# Altium integrated library Silicon Labs Clocks and Oscillators.IntLib: 678 symbols (part 11 of 45)
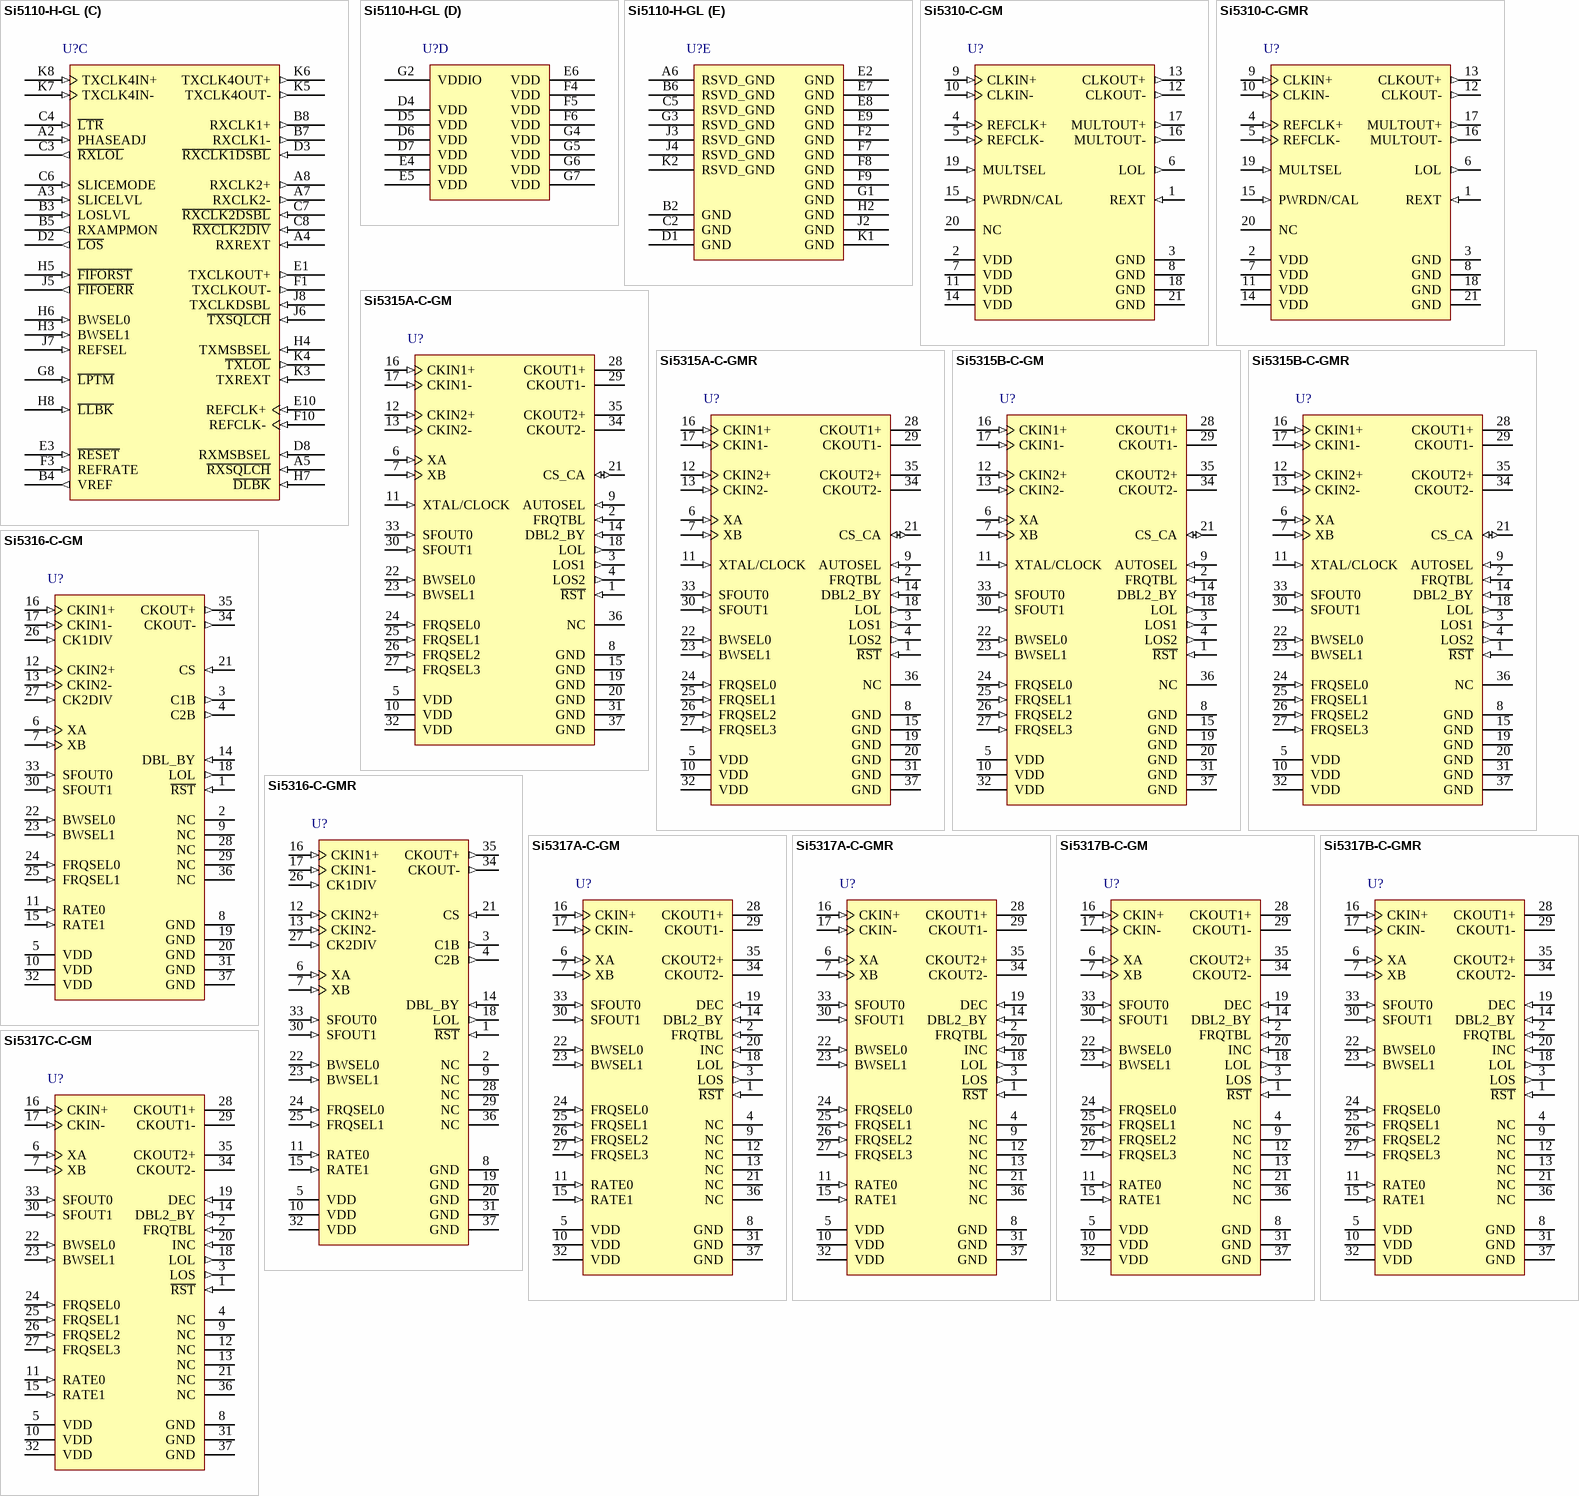
[diagram p54: symbols Si5110-H-GL to Si5317C-C-GM]

## Si5110-H-GL
designator U?
SiPHY(R) OC-48 / STM-16 SONET / SDH Transceiver, 1.8 V, -20 to 85 degC, 99-pin BGA; Manufacturer: Silicon Labs; PartNumber: Si5110-H-GL; Sub-Family: CDR/PHYs; DatasheetVersion: Rev. 1.5; PackageReference: PBGA-99; PackageDescription: 99-Ball Plastic Ball Grid Array, Body 11 x 11 mm, Pitch 1 mm; Supplier 1: Digi-Key; Supplier Part Number 1: SI5110-H-GL-ND; Supplier 2: Mouser; Supplier Part Number 2: 634-SI5110-H-GL; Mounting Technology: Surface Mount; Code_JEDEC: MO-192; Code_IPC: J-STD-020C; ComponentLink1Description: Manufacturer URL; ComponentLink1URL: http://www.silabs.com/; ComponentLink2Description: Datasheet; ComponentLink2URL: http://www.silabs.com/Support Documents/TechnicalDocs/si5110.pdf; ComponentLink3Description: Package Specification; ComponentLink3URL: http://www.silabs.com/Support%20Documents/TechnicalDocs/si5364.pdf
footprint SLAB-PBGA-99 (BGA, 99-Balls, Body 11x11mm, Pitch 1mm)
part A pins: A9 RXDOUT1+ (out) "Differential Parallel Receive Data Output.The data recovered from the signal present on RXDIN is demultiplexed and output as a 4-bit parallel word via RXDOUT[3:0]. The bit order for demultiplexing is selected by the RXMSBSEL (See Datasheet)", A10 RXDOUT0+ (out) "Differential Parallel Receive Data Output.The data recovered from the signal present on RXDIN is demultiplexed and output as a 4-bit parallel word via RXDOUT[3:0]. The bit order for demultiplexing is selected by the RXMSBSEL (See Datasheet)", B1 RXDIN+ (in) "Differential Receive Data Input.The receive clock and data signals RXCLK1,RXCLK2, and RXDOUT[3:0] are recovered from the high-speed data signal present on these pins.", B9 RXDOUT1- (out) "Differential Parallel Receive Data Output.The data recovered from the signal present on RXDIN is demultiplexed and output as a 4-bit parallel word via RXDOUT[3:0]. The bit order for demultiplexing is selected by the RXMSBSEL (See Datasheet)", B10 RXDOUT0- (out) "Differential Parallel Receive Data Output.The data recovered from the signal present on RXDIN is demultiplexed and output as a 4-bit parallel word via RXDOUT[3:0]. The bit order for demultiplexing is selected by the RXMSBSEL (See Datasheet)", C1 RXDIN- (in) "Differential Receive Data Input.The receive clock and data signals RXCLK1,RXCLK2, and RXDOUT[3:0] are recovered from the high-speed data signal present on these pins.", C9 RXDOUT3+ (out) "Differential Parallel Receive Data Output.The data recovered from the signal present on RXDIN is demultiplexed and output as a 4-bit parallel word via RXDOUT[3:0]. The bit order for demultiplexing is selected by the RXMSBSEL (See Datasheet)", C10 RXDOUT2+ (out) "Differential Parallel Receive Data Output.The data recovered from the signal present on RXDIN is demultiplexed and output as a 4-bit parallel word via RXDOUT[3:0]. The bit order for demultiplexing is selected by the RXMSBSEL (See Datasheet)", D9 RXDOUT3- (out) "Differential Parallel Receive Data Output.The data recovered from the signal present on RXDIN is demultiplexed and output as a 4-bit parallel word via RXDOUT[3:0]. The bit order for demultiplexing is selected by the RXMSBSEL (See Datasheet)", D10 RXDOUT2- (out) "Differential Parallel Receive Data Output.The data recovered from the signal present on RXDIN is demultiplexed and output as a 4-bit parallel word via RXDOUT[3:0]. The bit order for demultiplexing is selected by the RXMSBSEL (See Datasheet)"
part B pins: G9 TXDIN3+ (in) "Differential Parallel Transmit Data Input.The 4-bit data word present on these pins is multiplexed into a high-speed serial stream and output on TXDOUT. The bit order for transmit multiplexing is selected by the TXMSBSEL (See Datasheet)", G10 TXDIN2+ (in) "Differential Parallel Transmit Data Input.The 4-bit data word present on these pins is multiplexed into a high-speed serial stream and output on TXDOUT. The bit order for transmit multiplexing is selected by the TXMSBSEL (See Datasheet)", H1 TXDOUT+ (out) "Differential High-Speed Transmit Data Output.The 4-bit word input on TXDIN[3:0] is multiplexed into a high-speed serial stream that is output on the TXDOUT pins. The bit order for transmit multiplexing is selected by the (See Datasheet)", H9 TXDIN3- (in) "Differential Parallel Transmit Data Input.The 4-bit data word present on these pins is multiplexed into a high-speed serial stream and output on TXDOUT. The bit order for transmit multiplexing is selected by the TXMSBSEL (See Datasheet)", H10 TXDIN2- (in) "Differential Parallel Transmit Data Input.The 4-bit data word present on these pins is multiplexed into a high-speed serial stream and output on TXDOUT. The bit order for transmit multiplexing is selected by the TXMSBSEL (See Datasheet)", J1 TXDOUT- (out) "Differential High-Speed Transmit Data Output.The 4-bit word input on TXDIN[3:0] is multiplexed into a high-speed serial stream that is output on the TXDOUT pins. The bit order for transmit multiplexing is selected by the (See Datasheet)", J9 TXDIN1+ (in) "Differential Parallel Transmit Data Input.The 4-bit data word present on these pins is multiplexed into a high-speed serial stream and output on TXDOUT. The bit order for transmit multiplexing is selected by the TXMSBSEL (See Datasheet)", J10 TXDIN0+ (in) "Differential Parallel Transmit Data Input.The 4-bit data word present on these pins is multiplexed into a high-speed serial stream and output on TXDOUT. The bit order for transmit multiplexing is selected by the TXMSBSEL (See Datasheet)", K9 TXDIN1- (in) "Differential Parallel Transmit Data Input.The 4-bit data word present on these pins is multiplexed into a high-speed serial stream and output on TXDOUT. The bit order for transmit multiplexing is selected by the TXMSBSEL (See Datasheet)", K10 TXDIN0- (in) "Differential Parallel Transmit Data Input.The 4-bit data word present on these pins is multiplexed into a high-speed serial stream and output on TXDOUT. The bit order for transmit multiplexing is selected by the TXMSBSEL (See Datasheet)"
part C pins: A2 PHASEADJ (in) "Sampling Phase Adjust.Applying an analog voltage to this pin allows adjustment of the sampling phase across the data eye.Tieing this input to VREF nominally centers the sampling phase.", A3 SLICELVL (in) "Slicing Level Adjustment.Applying an analog voltage to this pin allows adjustment of the slicing level applied to the input data eye.Tying this input to VREF sets the slicing offset to 0.", A4 RXREXT (in) "Receiver External Bias Resistor.This resistor is used by the receiver circuitry to establish bias currents within the device. This pin must be connected to GND through a 3.09 kohm (1%)resistor", A5 ~{RXSQLCH} (in) "Receiver Data Squelch.When this input is low, the data on RXDOUT[3:0] is forced to a zero state. Set R\X\S\Q\L\C\H\ high for normal operation.The R\X\S\Q\L\C\H\ input is ignored when operating in Diagnostic Loopback mode (See Datasheet)", A7 RXCLK2- (out) "Differential Receiver Clock Output 2.An auxiliary output clock is provided on this pin that is equivalent to, or a submultiple of, the output word rate. The divide factor used in generating RXCLK2 is set via RXCLK2DIV.", A8 RXCLK2+ (out) "Differential Receiver Clock Output 2.An auxiliary output clock is provided on this pin that is equivalent to, or a submultiple of, the output word rate. The divide factor used in generating RXCLK2 is set via RXCLK2DIV.", B3 LOSLVL (in) "LOS Threshold Level.Applying an analog voltage to this pin allows adjustment of the Threshold used to declare L\O\S\. Tieing this input to VREF disables L\O\S\ detection and forces the L\O\S\ output high.", B4 VREF (out) "Voltage Reference.The Si5110 provides an output voltage reference that can be used by an external circuit to set the LOS threshold, slicing level, or sampling phase adjustment.The equivalent resistance between this pin and (See Datasheet)", B5 RXAMPMON (out) "Receiver Amplitude Monitor.The RXAMPMON output provides an analog output signal that is proportional to the input signal amplitude. See Equation 1 for the relationship between RXAMPON and RXDIN. This signal is active when (See Datasheet)", B7 RXCLK1- (out) "Differential Receiver Clock Output 1.The clock recovered from the signal present on RXDIN is divided down to the parallel output word rate and output on RXCLK1. In the absence of data, a stable clock on RXCLK1 can be (See Datasheet)", B8 RXCLK1+ (out) "Differential Receiver Clock Output 1.The clock recovered from the signal present on RXDIN is divided down to the parallel output word rate and output on RXCLK1. In the absence of data, a stable clock on RXCLK1 can be (See Datasheet)", C3 ~{RXLOL} (out) "Receiver Loss-of-Lock.This output is asserted (driven low) when the recovered clock frequency deviates from the reference clock by the amount specified in Table 5 on page 9.", C4 ~{LTR} (in) "Lock-to-Reference.When the L\T\R\ input is set low, the receiver PLL will lock to the selected reference clock. This function can be used to force a stable output clock on the RXCLK1 and RXCLK2 outputs when no valid input (See Datasheet)", C6 SLICEMODE (in) "Slice Level Adjustment Mode.The SLICEMODE input is used to select the mode of operation for slicing level adjustment. When SLICEMODE = 0, Absolute Slice mode is selected. When SLICEMODE = 1, Proportional Slice mode is (See Datasheet)", C7 ~{RXCLK2DSBL} (in) "RXCLK2 Disable.Setting this input low disables the RXCLK2 output.This saves power in applications that do not require an auxiliary clock.Note: This input has an internal pullup", C8 ~{RXCLK2DIV} (in) "RXCLK2 Clock Divider Select.This input selects the divide factor used to generate the RXCLK2 output. When this input is driven high,RXCLK2 is equal to the output word rate on RXDOUT.When driven low, RXCLK2 is 1/4th the (See Datasheet)", D2 ~{LOS} (out) "Loss-of-Signal.This output is asserted (driven low) when the peak-topeak signal amplitude on RXDIN is below the threshold set via LOSLVL.", D3 ~{RXCLK1DSBL} (in) "RXCLK1 Disable.Setting this input low disables the RXCLK1 output.This is used to save power in applications that do not require the primary output clock.Note: This input has an internal pullup", D8 RXMSBSEL (in) "Receive Data Bus Bit Order Select.This input determines the order of the received data bits on the RXDOUT[3:0] output bus.For RXMSBSEL = 0, the first data bit received is output on RXDOUT0 and following data bits are output (See Datasheet)", E1 TXCLKOUT+ (out) "High-Speed Transmit Clock Output.The high-speed clock output, TXCLKOUT, is generated by the PLL in the transmit clock multiplier unit. Its frequency is nominally 16 times or 32 times the selected reference source.", E3 ~{RESET} (in) "Device Reset.Forcing this input low for at least 1 ?s causes a device reset. For normal operation, this pin should be held high.Note: This input has an internal pullup.", E10 REFCLK+ (in) "Differential Reference Clock.This input is used as the Si5110 reference clock when the REFSEL input is set high (REFSEL = 1). The reference clock sets the operating frequency of the Si5110 transmit CMU, which is used to (See Datasheet)", F1 TXCLKOUT- (out) "High-Speed Transmit Clock Output.The high-speed clock output, TXCLKOUT, is generated by the PLL in the transmit clock multiplier unit. Its frequency is nominally 16 times or 32 times the selected reference source.", F3 REFRATE (in) "Reference Clock Rate Select.The REFRATE input sets the frequency for the REFCLK input. When REFRATE is set high, the REFCLK frequency is 1/16th the serial data rate (nominally 155 MHz). When REFRATE is set low, the REFCLK (See Datasheet)", F10 REFCLK- (in) "Differential Reference Clock.This input is used as the Si5110 reference clock when the REFSEL input is set high (REFSEL = 1). The reference clock sets the operating frequency of the Si5110 transmit CMU, which is used to (See Datasheet)", G8 ~{LPTM} (in) "Loop Timed Operation. When this input is set low, the recovered clock from the receiver is divided down and used as the reference source for the transmit CMU. The narrowband setting for the DSPLL CMU is sufficient to provide (See Datasheet)", H3 BWSEL1 (in) "Transmit DSPLL Bandwidth Select.The inputs select loop bandwidth of the Transmit Clock Multiplier DSPLL as listed in Table 6.Note: Both inputs have an internal pulldown", H4 TXMSBSEL (in) "Transmit Data Bus Bit Order Select.This input determines the order in which data bits recovered on the TXDIN[3:0] bus are transmitted on the high-speed serial output TXDOUT.For TXMSBSEL = 0, data on TXDIN0 is transmitted (See Datasheet)", H5 ~{FIFORST} (in) "FIFO RESET.When this input is low, the read/write FIFO pointers are reset to their initial state.Note: This input has an internal pullup.", H6 BWSEL0 (in) "Transmit DSPLL Bandwidth Select.The inputs select loop bandwidth of the Transmit Clock Multiplier DSPLL as listed in Table 6.Note: Both inputs have an internal pulldown", H7 ~{DLBK} (in) "Diagnostic Loopback.When this input is low, the transmit clock and data are looped back for output on RXDOUT, RXCLK1 and RXCLK2. This pin should be held high for normal operation.Note: This input has an internal pullup", H8 ~{LLBK} (in) "Line Loopback.When this input is low, the recovered clock and data are looped back for output on TXDOUT, and TXCLKOUT.Set this pin high for normal operation.Note: This input has an internal pullup", J5 ~{FIFOERR} (out) "FIFO Error.This output is asserted (driven low) when a FIFO overflow/underflow has occurred. This output is low until reset by asserting FIFORST.", J6 ~{TXSQLCH} (in) "Transmit Data Squelch.When T\X\S\Q\L\C\H\ is set low, the output data stream on TXDOUT is forced to a zero state. Set T\X\S\Q\L\C\H\ high for normal operation. The T\X\S\Q\L\C\H\ input is ignored when operating in Line (See Datasheet)", J7 REFSEL (in) "Reference Clock Selection.This input selects the reference clock source to be used by the Si5110 transmitter and receiver. The reference clock sets the operating frequency of the Si5110 transmit CMU, which is used to (See Datasheet)", J8 TXCLKDSBL (in) "High-Speed Transmit Clock Disable.When this input is high, the output driver for TXCLKOUT is disabled. In applications that do not require the output data clock, the output clock driver should be disabled to save power.Note: (See Datasheet)", K3 TXREXT (in) "Transmitter External Bias Resistor.This resistor is used by the transmitter circuitry to establish bias currents within the device. This pin must be connected to GND through a 3.09 kohm (1%) resistor.", K4 ~{TXLOL} (out) "Transmit CMU Loss-of-Lock.The T\X\L\O\L\ output is asserted (low) when the CMU is not phase locked to the selected reference source or if REFCLK is not present.", K5 TXCLK4OUT- (out) "Divided Down Transmit Clock Output.This clock output is generated by dividing down the high-speed output clock, TXCLKOUT, by a factor of 4.It is intended for use in counter clocking schemes that transfer data between the (See Datasheet)", K6 TXCLK4OUT+ (out) "Divided Down Transmit Clock Output.This clock output is generated by dividing down the high-speed output clock, TXCLKOUT, by a factor of 4.It is intended for use in counter clocking schemes that transfer data between the (See Datasheet)", K7 TXCLK4IN- (in) "Differential Transmit Data Clock Input.The rising edge of this input clocks data present on TXDIN into the device. TXCLK 4IN is also used as the Si5100 reference clock when the REFSEL input is set low.", K8 TXCLK4IN+ (in) "Differential Transmit Data Clock Input.The rising edge of this input clocks data present on TXDIN into the device. TXCLK 4IN is also used as the Si5100 reference clock when the REFSEL input is set low."
part D pins: D4 VDD (power) "Supply Voltage.Nominally 1.8 V.", D5 VDD (power) "Supply Voltage.Nominally 1.8 V.", D6 VDD (power) "Supply Voltage.Nominally 1.8 V.", D7 VDD (power) "Supply Voltage.Nominally 1.8 V.", E4 VDD (power) "Supply Voltage.Nominally 1.8 V.", E5 VDD (power) "Supply Voltage.Nominally 1.8 V.", E6 VDD (power) "Supply Voltage.Nominally 1.8 V.", F4 VDD (power) "Supply Voltage.Nominally 1.8 V.", F5 VDD (power) "Supply Voltage.Nominally 1.8 V.", F6 VDD (power) "Supply Voltage.Nominally 1.8 V.", G2 VDDIO (power) "LVTTL I/O Supply Voltage.Connect to either 1.8 or 3.3 V. When connected to 3.3 V, LVTTL compatible voltage swings are supported on the LVTTL inputs and LVTTL outputs of the device.", G4 VDD (power) "Supply Voltage.Nominally 1.8 V.", G5 VDD (power) "Supply Voltage.Nominally 1.8 V.", G6 VDD (power) "Supply Voltage.Nominally 1.8 V.", G7 VDD (power) "Supply Voltage.Nominally 1.8 V."
part E pins: A6 RSVD_GND (power) "Reserved Tie To Ground.Must be connected directly to GND for proper operation.", B2 GND (power) "Supply Ground.Connect to system GND. Ensure a very low impedance path for optimal performance", B6 RSVD_GND (power) "Reserved Tie To Ground.Must be connected directly to GND for proper operation.", C2 GND (power) "Supply Ground.Connect to system GND. Ensure a very low impedance path for optimal performance", C5 RSVD_GND (power) "Reserved Tie To Ground.Must be connected directly to GND for proper operation.", D1 GND (power) "Supply Ground.Connect to system GND. Ensure a very low impedance path for optimal performance", E2 GND (power) "Supply Ground.Connect to system GND. Ensure a very low impedance path for optimal performance", E7 GND (power) "Supply Ground.Connect to system GND. Ensure a very low impedance path for optimal performance", E8 GND (power) "Supply Ground.Connect to system GND. Ensure a very low impedance path for optimal performance", E9 GND (power) "Supply Ground.Connect to system GND. Ensure a very low impedance path for optimal performance", F2 GND (power) "Supply Ground.Connect to system GND. Ensure a very low impedance path for optimal performance", F7 GND (power) "Supply Ground.Connect to system GND. Ensure a very low impedance path for optimal performance", F8 GND (power) "Supply Ground.Connect to system GND. Ensure a very low impedance path for optimal performance", F9 GND (power) "Supply Ground.Connect to system GND. Ensure a very low impedance path for optimal performance", G1 GND (power) "Supply Ground.Connect to system GND. Ensure a very low impedance path for optimal performance", G3 RSVD_GND (power) "Reserved Tie To Ground.Must be connected directly to GND for proper operation.", H2 GND (power) "Supply Ground.Connect to system GND. Ensure a very low impedance path for optimal performance", J2 GND (power) "Supply Ground.Connect to system GND. Ensure a very low impedance path for optimal performance", J3 RSVD_GND (power) "Reserved Tie To Ground.Must be connected directly to GND for proper operation.", J4 RSVD_GND (power) "Reserved Tie To Ground.Must be connected directly to GND for proper operation.", K1 GND (power) "Supply Ground.Connect to system GND. Ensure a very low impedance path for optimal performance", K2 RSVD_GND (power) "Reserved Tie To Ground.Must be connected directly to GND for proper operation."

## Si5310-C-GM
designator U?
Precision Clock Multiplier / Regenerator IC, 2.5 V, 668 MHz Max Output, -40 to 85 degC, 20-pin QFN; Manufacturer: Silicon Labs; PartNumber: Si5310-C-GM; Output Format: CML; Output Frequency (MHz): 150 to 167; 600 to 668; Reference Inputs: 1; VDD: 2.5 V; Sub-Family: Clock Generators; DatasheetVersion: Rev. 1.3; PackageReference: QFN-20; PackageDescription: 20-Pin Quad-Flat No-Leads Package, Body 4 x 4 mm, Pitch 0.5 mm; Supplier 1: Digi-Key; Supplier Part Number 1: 336-1744-5-ND; Supplier 2: Mouser; Supplier Part Number 2: 634-SI5310-C-GM; Mounting Technology: Surface Mount; Code_JEDEC: MO-220; ComponentLink1Description: Manufacturer URL; ComponentLink1URL: http://www.silabs.com/; ComponentLink2Description: Datasheet; ComponentLink2URL: http://www.silabs.com/Support%20Documents/TechnicalDocs/si5310.pdf; ComponentLink3Description: Package Specification; ComponentLink3URL: http://www.silabs.com/Support%20Documents/TechnicalDocs/si5010.pdf
footprint SLAB-QFN-20-2100x2100TP_A_N (QFN, 20-Leads, Body 4x4mm, Pitch 0.5mm, Thermal Pad 2.1X2.1mm, IPC Medium Density)
footprint SLAB-QFN-20-2100x2100TP_A_L (QFN, 20-Leads, Body 4x4mm, Pitch 0.5mm, Thermal Pad 2.1X2.1mm, IPC High Density)
footprint SLAB-QFN-20-2100x2100TP_A_M (QFN, 20-Leads, Body 4x4mm, Pitch 0.5mm, Thermal Pad 2.1X2.1mm, IPC Low Density)
pins: 1 REXT (in) "External Bias Resistor.", 2 VDD (power) "Supply Voltage.", 3 GND (power) "Supply Ground.", 4 REFCLK+ (in) "Differential Reference Clock.", 5 REFCLK- (in) "Differential Reference Clock.", 6 LOL (out) "Loss-of-Lock.", 7 VDD (power) "Supply Voltage.", 8 GND (power) "Supply Ground.", 9 CLKIN+ (in) "Differential Clock Input", 10 CLKIN- (in) "Differential Clock Input", 11 VDD (power) "Supply Voltage.", 12 CLKOUT- (out) "Differential Clock Output.", 13 CLKOUT+ (out) "Differential Clock Output.", 14 VDD (power) "Supply Voltage.", 15 PWRDN/CAL (in) "Powerdown.Calibration", 16 MULTOUT- (out) "Differential Multiplier Output.", 17 MULTOUT+ (out) "Differential Multiplier Output.", 18 GND (power) "Supply Ground.", 19 MULTSEL (in) "Multiplier Rate Select.", 20 NC "No Connect.", 21 GND (power) "Supply Ground."

## Si5310-C-GMR
designator U?
Precision Clock Multiplier / Regenerator IC, 2.5 V, 668 MHz Max Output, -40 to 85 degC, 20-pin QFN, Tape and Reel; Manufacturer: Silicon Labs; PartNumber: Si5310-C-GMR; Output Format: CML; Output Frequency (MHz): 150 to 167; 600 to 668; Phase Jitter (RMS): 0.9 ps; Reference Inputs: 1; VDD: 2.5 V; Sub-Family: Clock Generators; DatasheetVersion: Rev. 1.3; PackageReference: QFN-20; PackageDescription: 20-Pin Quad-Flat No-Leads Package, Body 4 x 4 mm, Pitch 0.5 mm; Supplier 1: Digi-Key; Supplier Part Number 1: SI5310-C-GMR-ND; Supplier 2: Mouser; Supplier Part Number 2: 634-SI5310-C-GMR; Packing: Tape and Reel; Mounting Technology: Surface Mount; Code_JEDEC: MO-220; ComponentLink1Description: Manufacturer URL; ComponentLink1URL: http://www.silabs.com/; ComponentLink2Description: Datasheet; ComponentLink2URL: http://www.silabs.com/Support%20Documents/TechnicalDocs/si5310.pdf; ComponentLink3Description: Package Specification; ComponentLink3URL: http://www.silabs.com/Support%20Documents/TechnicalDocs/si5010.pdf
footprint SLAB-QFN-20-2100x2100TP_A_N (QFN, 20-Leads, Body 4x4mm, Pitch 0.5mm, Thermal Pad 2.1X2.1mm, IPC Medium Density)
footprint SLAB-QFN-20-2100x2100TP_A_L (QFN, 20-Leads, Body 4x4mm, Pitch 0.5mm, Thermal Pad 2.1X2.1mm, IPC High Density)
footprint SLAB-QFN-20-2100x2100TP_A_M (QFN, 20-Leads, Body 4x4mm, Pitch 0.5mm, Thermal Pad 2.1X2.1mm, IPC Low Density)
pins: 1 REXT (in) "External Bias Resistor.", 2 VDD (power) "Supply Voltage.", 3 GND (power) "Supply Ground.", 4 REFCLK+ (in) "Differential Reference Clock.", 5 REFCLK- (in) "Differential Reference Clock.", 6 LOL (out) "Loss-of-Lock.", 7 VDD (power) "Supply Voltage.", 8 GND (power) "Supply Ground.", 9 CLKIN+ (in) "Differential Clock Input", 10 CLKIN- (in) "Differential Clock Input", 11 VDD (power) "Supply Voltage.", 12 CLKOUT- (out) "Differential Clock Output.", 13 CLKOUT+ (out) "Differential Clock Output.", 14 VDD (power) "Supply Voltage.", 15 PWRDN/CAL (in) "Powerdown.Calibration", 16 MULTOUT- (out) "Differential Multiplier Output.", 17 MULTOUT+ (out) "Differential Multiplier Output.", 18 GND (power) "Supply Ground.", 19 MULTSEL (in) "Multiplier Rate Select.", 20 NC "No Connect.", 21 GND (power) "Supply Ground."

## Si5315A-C-GM
designator U?
Synchronous Ethernet / Telecom Jitter Attenuating Clock Multiplier, 1.8 / 2.5 / 3.3 V, 0.008 to 644 MHz Output, -40 to 85 degC, 36-pin QFN; Manufacturer: Silicon Labs; PartNumber: Si5315A-C-GM; Output Format: LVPECL; LVDS; CML; LVCMOS; Reference Inputs: 2; VDD: 1.8 V; 2.5 V; 3.3 V; Sub-Family: Clock Generators; DatasheetVersion: Rev. 1.0; PackageReference: QFN-36; PackageDescription: 36-Pin Quad-Flat No-Leads Package, Body 6 x 6 mm, Pitch 0.5 mm; Supplier 1: Digi-Key; Supplier Part Number 1: SI5315A-C-GM-ND; Supplier 2: Mouser; Supplier Part Number 2: 634-SI5315A-C-GM; Output Frequency (MHz): 0.008 to 644; Mounting Technology: Surface Mount; Code_JEDEC: MO-220; Code_IPC: J-STD-020; ComponentLink1Description: Manufacturer URL; ComponentLink1URL: http://www.silabs.com/; ComponentLink2Description: Datasheet; ComponentLink2URL: http://www.silabs.com/Support%20Documents/TechnicalDocs/Si5315.pdf; ComponentLink3Description: Package Specification; ComponentLink3URL: http://www.silabs.com/Support%20Documents/TechnicalDocs/Si5316.pdf
footprint SLAB-QFN-36-4100x4100TP_N (QFN, 36-Leads, Body 6x6mm, Pitch 0.5mm, Thermal Pad 4.1x4.1mm, IPC Medium Density)
footprint SLAB-QFN-36-4100x4100TP_L (QFN, 36-Leads, Body 6x6mm, Pitch 0.5mm, Thermal Pad 4.1x4.1mm, IPC High Density)
footprint SLAB-QFN-36-4100x4100TP_M (QFN, 36-Leads, Body 6x6mm, Pitch 0.5mm, Thermal Pad 4.1x4.1mm, IPC Low Density)
pins: 1 ~{RST} (in) "External Reset.", 2 FRQTBL (in) "Frequency Table Select.", 3 LOS1 (out) "CKIN1 Loss of Signal.", 4 LOS2 (out) "CKIN2 Loss of Signal", 5 VDD (power) "Supply.", 6 XA (in) "External Crystal or Reference Clock.", 7 XB (in) "External Crystal or Reference Clock.", 8 GND (power) "Ground.", 9 AUTOSEL (in) "Manual/Automatic Clock Selection.", 10 VDD (power) "Supply.", 11 XTAL/CLOCK (in), 12 CKIN2+ (in) "Clock Input 2.", 13 CKIN2- (in) "Clock Input 2.", 14 DBL2_BY (in) "Output 2 Disable/Bypass Mode Control.", 15 GND (power) "Ground.", 16 CKIN1+ (in) "Clock Input 1.", 17 CKIN1- (in) "Clock Input 1.", 18 LOL (out) "PLL Loss of Lock Indicator.", 19 GND (power) "Ground.", 20 GND (power) "Ground.", 21 CS_CA (io) "Input Clock Select/Active Clock Indicator.", 22 BWSEL0 (in) "Loop Bandwidth Select.", 23 BWSEL1 (in) "Loop Bandwidth Select.", 24 FRQSEL0 (in) "Frequency Select.", 25 FRQSEL1 (in) "Frequency Select.", 26 FRQSEL2 (in) "Frequency Select.", 27 FRQSEL3 (in) "Frequency Select.", 28 CKOUT1+ (hiz) "Clock Output 1.", 29 CKOUT1- (hiz) "Clock Output 1.", 30 SFOUT1 (in) "Signal Format Select.", 31 GND (power) "Ground.", 32 VDD (power) "Supply.", 33 SFOUT0 (in) "Signal Format Select.", 34 CKOUT2- (hiz) "Clock Output 2.", 35 CKOUT2+ (hiz) "Clock Output 2.", 36 NC "No Connect.", 37 GND (power) "Ground Pad."

## Si5315A-C-GMR
designator U?
Synchronous Ethernet / Telecom Jitter Attenuating Clock Multiplier, 1.8 / 2.5 / 3.3 V, 0.008 to 644 MHz Output, -40 to 85 degC, 36-pin QFN, Tape and Reel; Manufacturer: Silicon Labs; PartNumber: Si5315A-C-GMR; Output Format: LVPECL; LVDS; CML; LVCMOS; Phase Jitter (RMS): 0.23 ps; Reference Inputs: 2; VDD: 1.8 V; 2.5 V; 3.3 V; Sub-Family: Clock Generators; DatasheetVersion: Rev. 1.0; PackageReference: QFN-36; PackageDescription: 36-Pin Quad-Flat No-Leads Package, Body 6 x 6 mm, Pitch 0.5 mm; Supplier 1: Digi-Key; Supplier Part Number 1: SI5315A-C-GMR-ND; Supplier 2: Mouser; Supplier Part Number 2: 634-SI5315A-C-GMR; Output Frequency (MHz): 0.008 to 644; Packing: Tape and Reel; Mounting Technology: Surface Mount; Code_JEDEC: MO-220; Code_IPC: J-STD-020; ComponentLink1Description: Manufacturer URL; ComponentLink1URL: http://www.silabs.com/; ComponentLink2Description: Datasheet; ComponentLink2URL: http://www.silabs.com/Support%20Documents/TechnicalDocs/Si5315.pdf; ComponentLink3Description: Package Specification; ComponentLink3URL: http://www.silabs.com/Support%20Documents/TechnicalDocs/Si5316.pdf
footprint SLAB-QFN-36-4100x4100TP_N (QFN, 36-Leads, Body 6x6mm, Pitch 0.5mm, Thermal Pad 4.1x4.1mm, IPC Medium Density)
footprint SLAB-QFN-36-4100x4100TP_L (QFN, 36-Leads, Body 6x6mm, Pitch 0.5mm, Thermal Pad 4.1x4.1mm, IPC High Density)
footprint SLAB-QFN-36-4100x4100TP_M (QFN, 36-Leads, Body 6x6mm, Pitch 0.5mm, Thermal Pad 4.1x4.1mm, IPC Low Density)
pins: 1 ~{RST} (in) "External Reset.", 2 FRQTBL (in) "Frequency Table Select.", 3 LOS1 (out) "CKIN1 Loss of Signal.", 4 LOS2 (out) "CKIN2 Loss of Signal", 5 VDD (power) "Supply.", 6 XA (in) "External Crystal or Reference Clock.", 7 XB (in) "External Crystal or Reference Clock.", 8 GND (power) "Ground.", 9 AUTOSEL (in) "Manual/Automatic Clock Selection.", 10 VDD (power) "Supply.", 11 XTAL/CLOCK (in), 12 CKIN2+ (in) "Clock Input 2.", 13 CKIN2- (in) "Clock Input 2.", 14 DBL2_BY (in) "Output 2 Disable/Bypass Mode Control.", 15 GND (power) "Ground.", 16 CKIN1+ (in) "Clock Input 1.", 17 CKIN1- (in) "Clock Input 1.", 18 LOL (out) "PLL Loss of Lock Indicator.", 19 GND (power) "Ground.", 20 GND (power) "Ground.", 21 CS_CA (io) "Input Clock Select/Active Clock Indicator.", 22 BWSEL0 (in) "Loop Bandwidth Select.", 23 BWSEL1 (in) "Loop Bandwidth Select.", 24 FRQSEL0 (in) "Frequency Select.", 25 FRQSEL1 (in) "Frequency Select.", 26 FRQSEL2 (in) "Frequency Select.", 27 FRQSEL3 (in) "Frequency Select.", 28 CKOUT1+ (hiz) "Clock Output 1.", 29 CKOUT1- (hiz) "Clock Output 1.", 30 SFOUT1 (in) "Signal Format Select.", 31 GND (power) "Ground.", 32 VDD (power) "Supply.", 33 SFOUT0 (in) "Signal Format Select.", 34 CKOUT2- (hiz) "Clock Output 2.", 35 CKOUT2+ (hiz) "Clock Output 2.", 36 NC "No Connect.", 37 GND (power) "Ground Pad."

## Si5315B-C-GM
designator U?
Synchronous Ethernet / Telecom Jitter Attenuating Clock Multiplier, 1.8 / 2.5 / 3.3 V, 0.008 to 125 MHz Output, -40 to 85 degC, 36-pin QFN; Manufacturer: Silicon Labs; PartNumber: Si5315B-C-GM; Output Format: LVPECL; LVDS; CML; LVCMOS; Reference Inputs: 2; VDD: 1.8 V; 2.5 V; 3.3 V; Sub-Family: Clock Generators; DatasheetVersion: Rev. 1.0; PackageReference: QFN-36; PackageDescription: 36-Pin Quad-Flat No-Leads Package, Body 6 x 6 mm, Pitch 0.5 mm; Supplier 1: Digi-Key; Supplier Part Number 1: SI5315B-C-GM-ND; Supplier 2: Mouser; Supplier Part Number 2: 634-SI5315B-C-GM; Output Frequency (MHz): 0.008 to 125; Mounting Technology: Surface Mount; Code_JEDEC: MO-220; Code_IPC: J-STD-020; ComponentLink1Description: Manufacturer URL; ComponentLink1URL: http://www.silabs.com/; ComponentLink2Description: Datasheet; ComponentLink2URL: http://www.silabs.com/Support%20Documents/TechnicalDocs/Si5315.pdf; ComponentLink3Description: Package Specification; ComponentLink3URL: http://www.silabs.com/Support%20Documents/TechnicalDocs/Si5316.pdf
footprint SLAB-QFN-36-4100x4100TP_N (QFN, 36-Leads, Body 6x6mm, Pitch 0.5mm, Thermal Pad 4.1x4.1mm, IPC Medium Density)
footprint SLAB-QFN-36-4100x4100TP_L (QFN, 36-Leads, Body 6x6mm, Pitch 0.5mm, Thermal Pad 4.1x4.1mm, IPC High Density)
footprint SLAB-QFN-36-4100x4100TP_M (QFN, 36-Leads, Body 6x6mm, Pitch 0.5mm, Thermal Pad 4.1x4.1mm, IPC Low Density)
pins: 1 ~{RST} (in) "External Reset.", 2 FRQTBL (in) "Frequency Table Select.", 3 LOS1 (out) "CKIN1 Loss of Signal.", 4 LOS2 (out) "CKIN2 Loss of Signal", 5 VDD (power) "Supply.", 6 XA (in) "External Crystal or Reference Clock.", 7 XB (in) "External Crystal or Reference Clock.", 8 GND (power) "Ground.", 9 AUTOSEL (in) "Manual/Automatic Clock Selection.", 10 VDD (power) "Supply.", 11 XTAL/CLOCK (in), 12 CKIN2+ (in) "Clock Input 2.", 13 CKIN2- (in) "Clock Input 2.", 14 DBL2_BY (in) "Output 2 Disable/Bypass Mode Control.", 15 GND (power) "Ground.", 16 CKIN1+ (in) "Clock Input 1.", 17 CKIN1- (in) "Clock Input 1.", 18 LOL (out) "PLL Loss of Lock Indicator.", 19 GND (power) "Ground.", 20 GND (power) "Ground.", 21 CS_CA (io) "Input Clock Select/Active Clock Indicator.", 22 BWSEL0 (in) "Loop Bandwidth Select.", 23 BWSEL1 (in) "Loop Bandwidth Select.", 24 FRQSEL0 (in) "Frequency Select.", 25 FRQSEL1 (in) "Frequency Select.", 26 FRQSEL2 (in) "Frequency Select.", 27 FRQSEL3 (in) "Frequency Select.", 28 CKOUT1+ (hiz) "Clock Output 1.", 29 CKOUT1- (hiz) "Clock Output 1.", 30 SFOUT1 (in) "Signal Format Select.", 31 GND (power) "Ground.", 32 VDD (power) "Supply.", 33 SFOUT0 (in) "Signal Format Select.", 34 CKOUT2- (hiz) "Clock Output 2.", 35 CKOUT2+ (hiz) "Clock Output 2.", 36 NC "No Connect.", 37 GND (power) "Ground Pad."

## Si5315B-C-GMR
designator U?
Synchronous Ethernet / Telecom Jitter Attenuating Clock Multiplier, 1.8 / 2.5 / 3.3 V, 0.008 to 125 MHz Output, -40 to 85 degC, 36-pin QFN, Tape and Reel; Manufacturer: Silicon Labs; PartNumber: Si5315B-C-GMR; Output Format: LVPECL; LVDS; CML; LVCMOS; Phase Jitter (RMS): 0.23 ps; Reference Inputs: 2; VDD: 1.8 V; 2.5 V; 3.3 V; Sub-Family: Clock Generators; DatasheetVersion: Rev. 1.0; PackageReference: QFN-36; PackageDescription: 36-Pin Quad-Flat No-Leads Package, Body 6 x 6 mm, Pitch 0.5 mm; Supplier 1: Digi-Key; Supplier Part Number 1: SI5315B-C-GMR-ND; Supplier 2: Mouser; Supplier Part Number 2: 634-SI5315B-C-GMR; Output Frequency (MHz): 0.008 to 125; Packing: Tape and Reel; Mounting Technology: Surface Mount; Code_JEDEC: MO-220; Code_IPC: J-STD-020; ComponentLink1Description: Manufacturer URL; ComponentLink1URL: http://www.silabs.com/; ComponentLink2Description: Datasheet; ComponentLink2URL: http://www.silabs.com/Support%20Documents/TechnicalDocs/Si5315.pdf; ComponentLink3Description: Package Specification; ComponentLink3URL: http://www.silabs.com/Support%20Documents/TechnicalDocs/Si5316.pdf
footprint SLAB-QFN-36-4100x4100TP_N (QFN, 36-Leads, Body 6x6mm, Pitch 0.5mm, Thermal Pad 4.1x4.1mm, IPC Medium Density)
footprint SLAB-QFN-36-4100x4100TP_L (QFN, 36-Leads, Body 6x6mm, Pitch 0.5mm, Thermal Pad 4.1x4.1mm, IPC High Density)
footprint SLAB-QFN-36-4100x4100TP_M (QFN, 36-Leads, Body 6x6mm, Pitch 0.5mm, Thermal Pad 4.1x4.1mm, IPC Low Density)
pins: 1 ~{RST} (in) "External Reset.", 2 FRQTBL (in) "Frequency Table Select.", 3 LOS1 (out) "CKIN1 Loss of Signal.", 4 LOS2 (out) "CKIN2 Loss of Signal", 5 VDD (power) "Supply.", 6 XA (in) "External Crystal or Reference Clock.", 7 XB (in) "External Crystal or Reference Clock.", 8 GND (power) "Ground.", 9 AUTOSEL (in) "Manual/Automatic Clock Selection.", 10 VDD (power) "Supply.", 11 XTAL/CLOCK (in), 12 CKIN2+ (in) "Clock Input 2.", 13 CKIN2- (in) "Clock Input 2.", 14 DBL2_BY (in) "Output 2 Disable/Bypass Mode Control.", 15 GND (power) "Ground.", 16 CKIN1+ (in) "Clock Input 1.", 17 CKIN1- (in) "Clock Input 1.", 18 LOL (out) "PLL Loss of Lock Indicator.", 19 GND (power) "Ground.", 20 GND (power) "Ground.", 21 CS_CA (io) "Input Clock Select/Active Clock Indicator.", 22 BWSEL0 (in) "Loop Bandwidth Select.", 23 BWSEL1 (in) "Loop Bandwidth Select.", 24 FRQSEL0 (in) "Frequency Select.", 25 FRQSEL1 (in) "Frequency Select.", 26 FRQSEL2 (in) "Frequency Select.", 27 FRQSEL3 (in) "Frequency Select.", 28 CKOUT1+ (hiz) "Clock Output 1.", 29 CKOUT1- (hiz) "Clock Output 1.", 30 SFOUT1 (in) "Signal Format Select.", 31 GND (power) "Ground.", 32 VDD (power) "Supply.", 33 SFOUT0 (in) "Signal Format Select.", 34 CKOUT2- (hiz) "Clock Output 2.", 35 CKOUT2+ (hiz) "Clock Output 2.", 36 NC "No Connect.", 37 GND (power) "Ground Pad."

## Si5316-C-GM
designator U?
Precision Clock Jitter Attenuator, 1.8 / 2.5 / 3.3 V, 19 to 710 MHz Output, -40 to 85 degC, 36-pin QFN; Manufacturer: Silicon Labs; PartNumber: Si5316-C-GM; Output Format: LVPECL; LVDS; CML; LVCMOS; Reference Inputs: 2; VDD: 1.8 V; 2.5 V; 3.3 V; Sub-Family: Clock Generators; DatasheetVersion: Rev. 1.0; PackageReference: QFN-36; PackageDescription: 36-Pin Quad-Flat No-Leads Package, Body 6 x 6 mm, Pitch 0.5 mm; Supplier 1: Digi-Key; Supplier Part Number 1: SI5316-C-GM-ND; Supplier 2: Mouser; Supplier Part Number 2: 634-SI5316-C-GM; Output Frequency (MHz): 19 to 710; Mounting Technology: Surface Mount; Code_JEDEC: MO-220; Code_IPC: J-STD-020; ComponentLink1Description: Manufacturer URL; ComponentLink1URL: http://www.silabs.com/; ComponentLink2Description: Datasheet; ComponentLink2URL: http://www.silabs.com/Support%20Documents/TechnicalDocs/Si5316.pdf; ComponentLink3Description: Package Specification; ComponentLink3URL: http://www.silabs.com/Support%20Documents/TechnicalDocs/Si5316.pdf
footprint SLAB-QFN-36-4100x4100TP_N (QFN, 36-Leads, Body 6x6mm, Pitch 0.5mm, Thermal Pad 4.1x4.1mm, IPC Medium Density)
footprint SLAB-QFN-36-4100x4100TP_L (QFN, 36-Leads, Body 6x6mm, Pitch 0.5mm, Thermal Pad 4.1x4.1mm, IPC High Density)
footprint SLAB-QFN-36-4100x4100TP_M (QFN, 36-Leads, Body 6x6mm, Pitch 0.5mm, Thermal Pad 4.1x4.1mm, IPC Low Density)
pins: 1 ~{RST} (in) "External Reset", 2 NC "No Connection.", 3 C1B (out) "CKIN1 Loss of Signal.", 4 C2B (out) "CKIN2 Loss of Signal.", 5 VDD (power) "Supply.", 6 XA (in) "External Crystal or Reference Clock", 7 XB (in) "External Crystal or Reference Clock", 8 GND (power) "Ground.", 9 NC "No Connection.", 10 VDD (power) "Supply.", 11 RATE0 (in) "External Crystal or Reference Clock Rate.", 12 CKIN2+ (in) "Clock Input 2.", 13 CKIN2- (in) "Clock Input 2.", 14 DBL_BY (in) "Output Disable/Bypass Mode Control.", 15 RATE1 (in) "External Crystal or Reference Clock Rate.", 16 CKIN1+ (in) "Clock Input 1.", 17 CKIN1- (in) "Clock Input 1.", 18 LOL (out) "PLL Loss of Lock Indicator.", 19 GND (power) "Ground.", 20 GND (power) "Ground.", 21 CS (in) "Input Clock Select.", 22 BWSEL0 (in) "Bandwidth Select.", 23 BWSEL1 (in) "Bandwidth Select.", 24 FRQSEL0 (in) "Frequency Select.", 25 FRQSEL1 (in) "Frequency Select.", 26 CK1DIV (in) "Input Clock 1 Pre-Divider Select.", 27 CK2DIV (in) "Input Clock 2 Pre-Divider Select.", 28 NC "No Connection.", 29 NC "No Connection.", 30 SFOUT1 (in) "Signal Format Select.", 31 GND (power) "Ground.", 32 VDD (power) "Supply.", 33 SFOUT0 (in) "Signal Format Select.", 34 CKOUT- (out) "Clock Output.", 35 CKOUT+ (out) "Clock Output.", 36 NC "No Connection.", 37 GND (power) "Ground Pad."

## Si5316-C-GMR
designator U?
Precision Clock Jitter Attenuator, 1.8 / 2.5 / 3.3 V, 19 to 710 MHz Output, -40 to 85 degC, 36-pin QFN, Tape and Reel; Manufacturer: Silicon Labs; PartNumber: Si5316-C-GMR; Output Format: LVPECL; LVDS; CML; LVCMOS; Phase Jitter (RMS): 0.3 ps; Reference Inputs: 2; VDD: 1.8 V; 2.5 V; 3.3 V; Sub-Family: Clock Generators; DatasheetVersion: Rev. 1.0; PackageReference: QFN-36; PackageDescription: 36-Pin Quad-Flat No-Leads Package, Body 6 x 6 mm, Pitch 0.5 mm; Supplier 1: Digi-Key; Supplier Part Number 1: SI5316-C-GMR-ND; Supplier 2: Mouser; Supplier Part Number 2: 634-SI5316-C-GMR; Output Frequency (MHz): 19 to 710; Packing: Tape and Reel; Mounting Technology: Surface Mount; Code_JEDEC: MO-220; Code_IPC: J-STD-020; ComponentLink1Description: Manufacturer URL; ComponentLink1URL: http://www.silabs.com/; ComponentLink2Description: Datasheet; ComponentLink2URL: http://www.silabs.com/Support%20Documents/TechnicalDocs/Si5316.pdf; ComponentLink3Description: Package Specification; ComponentLink3URL: http://www.silabs.com/Support%20Documents/TechnicalDocs/Si5316.pdf
footprint SLAB-QFN-36-4100x4100TP_N (QFN, 36-Leads, Body 6x6mm, Pitch 0.5mm, Thermal Pad 4.1x4.1mm, IPC Medium Density)
footprint SLAB-QFN-36-4100x4100TP_L (QFN, 36-Leads, Body 6x6mm, Pitch 0.5mm, Thermal Pad 4.1x4.1mm, IPC High Density)
footprint SLAB-QFN-36-4100x4100TP_M (QFN, 36-Leads, Body 6x6mm, Pitch 0.5mm, Thermal Pad 4.1x4.1mm, IPC Low Density)
pins: 1 ~{RST} (in) "External Reset", 2 NC "No Connection.", 3 C1B (out) "CKIN1 Loss of Signal.", 4 C2B (out) "CKIN2 Loss of Signal.", 5 VDD (power) "Supply.", 6 XA (in) "External Crystal or Reference Clock", 7 XB (in) "External Crystal or Reference Clock", 8 GND (power) "Ground.", 9 NC "No Connection.", 10 VDD (power) "Supply.", 11 RATE0 (in) "External Crystal or Reference Clock Rate.", 12 CKIN2+ (in) "Clock Input 2.", 13 CKIN2- (in) "Clock Input 2.", 14 DBL_BY (in) "Output Disable/Bypass Mode Control.", 15 RATE1 (in) "External Crystal or Reference Clock Rate.", 16 CKIN1+ (in) "Clock Input 1.", 17 CKIN1- (in) "Clock Input 1.", 18 LOL (out) "PLL Loss of Lock Indicator.", 19 GND (power) "Ground.", 20 GND (power) "Ground.", 21 CS (in) "Input Clock Select.", 22 BWSEL0 (in) "Bandwidth Select.", 23 BWSEL1 (in) "Bandwidth Select.", 24 FRQSEL0 (in) "Frequency Select.", 25 FRQSEL1 (in) "Frequency Select.", 26 CK1DIV (in) "Input Clock 1 Pre-Divider Select.", 27 CK2DIV (in) "Input Clock 2 Pre-Divider Select.", 28 NC "No Connection.", 29 NC "No Connection.", 30 SFOUT1 (in) "Signal Format Select.", 31 GND (power) "Ground.", 32 VDD (power) "Supply.", 33 SFOUT0 (in) "Signal Format Select.", 34 CKOUT- (out) "Clock Output.", 35 CKOUT+ (out) "Clock Output.", 36 NC "No Connection.", 37 GND (power) "Ground Pad."

## Si5317A-C-GM
designator U?
Pin-Controlled Jitter Cleaning Clock, 1.8 / 2.5 / 3.3 V, 1 to 711 MHz Output, -40 to 85 degC, 36-pin QFN; Manufacturer: Silicon Labs; PartNumber: Si5317A-C-GM; Output Format: LVPECL; LVDS; CML; LVCMOS; Output Frequency (MHz): 1 to 711; Reference Inputs: 1; VDD: 1.8 V; 2.5 V; 3.3 V; Sub-Family: Clock Generators; DatasheetVersion: Rev. 1.1; PackageReference: QFN-36; PackageDescription: 36-Pin Quad-Flat No-Leads Package, Body 6 x 6 mm, Pitch 0.5 mm; Supplier 1: Digi-Key; Supplier Part Number 1: 336-1923-ND; Supplier 2: Mouser; Supplier Part Number 2: 634-SI5317A-C-GM; Mounting Technology: Surface Mount; Code_JEDEC: MO-220; Code_IPC: J-STD-020; ComponentLink1Description: Manufacturer URL; ComponentLink1URL: http://www.silabs.com/; ComponentLink2Description: Datasheet; ComponentLink2URL: https://www.silabs.com/Support%20Documents/TechnicalDocs/Si5317.pdf; ComponentLink3Description: Package Specification; ComponentLink3URL: http://www.silabs.com/Support%20Documents/TechnicalDocs/Si5316.pdf
footprint SLAB-QFN-36-4100x4100TP_N (QFN, 36-Leads, Body 6x6mm, Pitch 0.5mm, Thermal Pad 4.1x4.1mm, IPC Medium Density)
footprint SLAB-QFN-36-4100x4100TP_L (QFN, 36-Leads, Body 6x6mm, Pitch 0.5mm, Thermal Pad 4.1x4.1mm, IPC High Density)
footprint SLAB-QFN-36-4100x4100TP_M (QFN, 36-Leads, Body 6x6mm, Pitch 0.5mm, Thermal Pad 4.1x4.1mm, IPC Low Density)
pins: 1 ~{RST} (in) "External Reset.", 2 FRQTBL (in) "Frequency Table Select.", 3 LOS (out) "CKIN Loss of Signal.", 4 NC "No Connect.", 5 VDD (power) "Supply.", 6 XA (in) "External Crystal or Reference Clock.", 7 XB (in) "External Crystal or Reference Clock.", 8 GND (power) "Ground.", 9 NC "No Connect.", 10 VDD (power) "Supply.", 11 RATE0 (in) "External Crystal or Reference Clock Rate.", 12 NC "No Connect.", 13 NC "No Connect.", 14 DBL2_BY (in) "Output 2 Disable/Bypass Mode Control.", 15 RATE1 (in) "External Crystal or Reference Clock Rate.", 16 CKIN+ (in) "Clock Input.", 17 CKIN- (in) "Clock Input.", 18 LOL (out) "PLL Loss of Lock Indicator.", 19 DEC (in) "Skew Decrement.", 20 INC (in) "Skew Increment.", 21 NC "No Connect.", 22 BWSEL0 (in) "Loop Bandwidth Select.", 23 BWSEL1 (in) "Loop Bandwidth Select.", 24 FRQSEL0 (in) "Frequency Select.", 25 FRQSEL1 (in) "Frequency Select.", 26 FRQSEL2 (in) "Frequency Select.", 27 FRQSEL3 (in) "Frequency Select.", 28 CKOUT1+ (hiz) "Clock Output 1.", 29 CKOUT1- (hiz) "Clock Output 1.", 30 SFOUT1 (in) "Signal Format Select.", 31 GND (power) "Ground.", 32 VDD (power) "Supply.", 33 SFOUT0 (in) "Signal Format Select.", 34 CKOUT2- (hiz) "Clock Output 2.", 35 CKOUT2+ (hiz) "Clock Output 2.", 36 NC "No Connect.", 37 GND (power) "Ground Pad."

## Si5317A-C-GMR
designator U?
Pin-Controlled Jitter Cleaning Clock, 1.8 / 2.5 / 3.3 V, 1 to 711 MHz Output, -40 to 85 degC, 36-pin QFN, Tape and Reel; Manufacturer: Silicon Labs; PartNumber: Si5317A-C-GMR; Output Format: LVPECL; LVDS; CML; LVCMOS; Output Frequency (MHz): 1 to 711; Phase Jitter (RMS): 0.3 ps; Reference Inputs: 1; VDD: 1.8 V; 2.5 V; 3.3 V; Sub-Family: Clock Generators; DatasheetVersion: Rev. 1.1; PackageReference: QFN-36; PackageDescription: 36-Pin Quad-Flat No-Leads Package, Body 6 x 6 mm, Pitch 0.5 mm; Supplier 1: Digi-Key; Supplier Part Number 1: SI5317A-C-GMR-ND; Supplier 2: Mouser; Supplier Part Number 2: 634-SI5317A-C-GMR; Packing: Tape and Reel; Mounting Technology: Surface Mount; Code_JEDEC: MO-220; Code_IPC: J-STD-020; ComponentLink1Description: Manufacturer URL; ComponentLink1URL: http://www.silabs.com/; ComponentLink2Description: Datasheet; ComponentLink2URL: https://www.silabs.com/Support%20Documents/TechnicalDocs/Si5317.pdf; ComponentLink3Description: Package Specification; ComponentLink3URL: http://www.silabs.com/Support%20Documents/TechnicalDocs/Si5316.pdf
footprint SLAB-QFN-36-4100x4100TP_N (QFN, 36-Leads, Body 6x6mm, Pitch 0.5mm, Thermal Pad 4.1x4.1mm, IPC Medium Density)
footprint SLAB-QFN-36-4100x4100TP_L (QFN, 36-Leads, Body 6x6mm, Pitch 0.5mm, Thermal Pad 4.1x4.1mm, IPC High Density)
footprint SLAB-QFN-36-4100x4100TP_M (QFN, 36-Leads, Body 6x6mm, Pitch 0.5mm, Thermal Pad 4.1x4.1mm, IPC Low Density)
pins: 1 ~{RST} (in) "External Reset.", 2 FRQTBL (in) "Frequency Table Select.", 3 LOS (out) "CKIN Loss of Signal.", 4 NC "No Connect.", 5 VDD (power) "Supply.", 6 XA (in) "External Crystal or Reference Clock.", 7 XB (in) "External Crystal or Reference Clock.", 8 GND (power) "Ground.", 9 NC "No Connect.", 10 VDD (power) "Supply.", 11 RATE0 (in) "External Crystal or Reference Clock Rate.", 12 NC "No Connect.", 13 NC "No Connect.", 14 DBL2_BY (in) "Output 2 Disable/Bypass Mode Control.", 15 RATE1 (in) "External Crystal or Reference Clock Rate.", 16 CKIN+ (in) "Clock Input.", 17 CKIN- (in) "Clock Input.", 18 LOL (out) "PLL Loss of Lock Indicator.", 19 DEC (in) "Skew Decrement.", 20 INC (in) "Skew Increment.", 21 NC "No Connect.", 22 BWSEL0 (in) "Loop Bandwidth Select.", 23 BWSEL1 (in) "Loop Bandwidth Select.", 24 FRQSEL0 (in) "Frequency Select.", 25 FRQSEL1 (in) "Frequency Select.", 26 FRQSEL2 (in) "Frequency Select.", 27 FRQSEL3 (in) "Frequency Select.", 28 CKOUT1+ (hiz) "Clock Output 1.", 29 CKOUT1- (hiz) "Clock Output 1.", 30 SFOUT1 (in) "Signal Format Select.", 31 GND (power) "Ground.", 32 VDD (power) "Supply.", 33 SFOUT0 (in) "Signal Format Select.", 34 CKOUT2- (hiz) "Clock Output 2.", 35 CKOUT2+ (hiz) "Clock Output 2.", 36 NC "No Connect.", 37 GND (power) "Ground Pad."

## Si5317B-C-GM
designator U?
Pin-Controlled Jitter Cleaning Clock, 1.8 / 2.5 / 3.3 V, 1 to 350 MHz Output, -40 to 85 degC, 36-pin QFN; Manufacturer: Silicon Labs; PartNumber: Si5317B-C-GM; Output Format: LVPECL; LVDS; CML; LVCMOS; Output Frequency (MHz): 1 to 350; Reference Inputs: 1; VDD: 1.8 V; 2.5 V; 3.3 V; Sub-Family: Clock Generators; DatasheetVersion: Rev. 1.1; PackageReference: QFN-36; PackageDescription: 36-Pin Quad-Flat No-Leads Package, Body 6 x 6 mm, Pitch 0.5 mm; Supplier 1: Digi-Key; Supplier Part Number 1: 336-1922-ND; Supplier 2: Mouser; Supplier Part Number 2: 634-SI5317B-C-GM; Mounting Technology: Surface Mount; Code_JEDEC: MO-220; Code_IPC: J-STD-020; ComponentLink1Description: Manufacturer URL; ComponentLink1URL: http://www.silabs.com/; ComponentLink2Description: Datasheet; ComponentLink2URL: https://www.silabs.com/Support%20Documents/TechnicalDocs/Si5317.pdf; ComponentLink3Description: Package Specification; ComponentLink3URL: http://www.silabs.com/Support%20Documents/TechnicalDocs/Si5316.pdf
footprint SLAB-QFN-36-4100x4100TP_N (QFN, 36-Leads, Body 6x6mm, Pitch 0.5mm, Thermal Pad 4.1x4.1mm, IPC Medium Density)
footprint SLAB-QFN-36-4100x4100TP_L (QFN, 36-Leads, Body 6x6mm, Pitch 0.5mm, Thermal Pad 4.1x4.1mm, IPC High Density)
footprint SLAB-QFN-36-4100x4100TP_M (QFN, 36-Leads, Body 6x6mm, Pitch 0.5mm, Thermal Pad 4.1x4.1mm, IPC Low Density)
pins: 1 ~{RST} (in) "External Reset.", 2 FRQTBL (in) "Frequency Table Select.", 3 LOS (out) "CKIN Loss of Signal.", 4 NC "No Connect.", 5 VDD (power) "Supply.", 6 XA (in) "External Crystal or Reference Clock.", 7 XB (in) "External Crystal or Reference Clock.", 8 GND (power) "Ground.", 9 NC "No Connect.", 10 VDD (power) "Supply.", 11 RATE0 (in) "External Crystal or Reference Clock Rate.", 12 NC "No Connect.", 13 NC "No Connect.", 14 DBL2_BY (in) "Output 2 Disable/Bypass Mode Control.", 15 RATE1 (in) "External Crystal or Reference Clock Rate.", 16 CKIN+ (in) "Clock Input.", 17 CKIN- (in) "Clock Input.", 18 LOL (out) "PLL Loss of Lock Indicator.", 19 DEC (in) "Skew Decrement.", 20 INC (in) "Skew Increment.", 21 NC "No Connect.", 22 BWSEL0 (in) "Loop Bandwidth Select.", 23 BWSEL1 (in) "Loop Bandwidth Select.", 24 FRQSEL0 (in) "Frequency Select.", 25 FRQSEL1 (in) "Frequency Select.", 26 FRQSEL2 (in) "Frequency Select.", 27 FRQSEL3 (in) "Frequency Select.", 28 CKOUT1+ (hiz) "Clock Output 1.", 29 CKOUT1- (hiz) "Clock Output 1.", 30 SFOUT1 (in) "Signal Format Select.", 31 GND (power) "Ground.", 32 VDD (power) "Supply.", 33 SFOUT0 (in) "Signal Format Select.", 34 CKOUT2- (hiz) "Clock Output 2.", 35 CKOUT2+ (hiz) "Clock Output 2.", 36 NC "No Connect.", 37 GND (power) "Ground Pad."